# EAGLE library part ATA6563 (library lichtenstein_onion)
ATA6563 – High-speed CAN FD Transceiver with Standby Mode and VIO Pin and WUP Information <https://www.microchip.com/wwwproducts/en/ATA6563> Datasheet <http://ww1.microchip.com/downloads/en/DeviceDoc/20005790B.pdf> Doesn't seem to be available from Mouser: buy direct from Microchip (~$0.50/1)
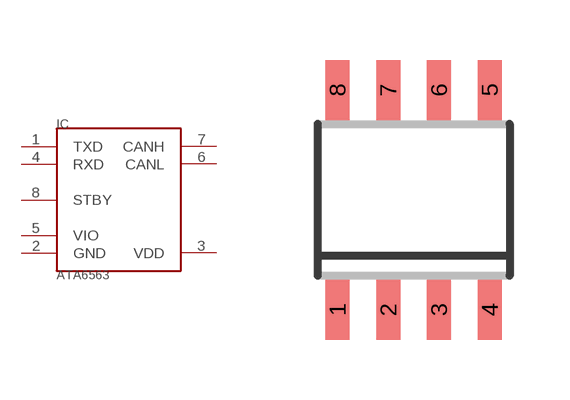
[diagram p16: symbol with the pads of SOIC8; footprint SOIC8]

Designator prefix IC

## ATA6563  [SOIC8]
1  TXD
2  GND
3  VDD
4  RXD
5  VIO
6  CANL
7  CANH
8  STBY

## Footprint SOIC8 (pad centres in mm)
SOIC-8 CASE 751-07 Source: http://www.onsemi.com/pub/Collateral/MC34164-D.PDF D (R-PDSO-G8)PLATIC SMALL-OUTLINE PACKAGE Source: http://focus.ti.com/lit/ds/symlink/tlc27l2.pdf
smd 0.6 x 1.5: 1 -1.905,-2.75; 2 -0.635,-2.75; 3 0.635,-2.75; 4 1.905,-2.75; 5 1.905,2.75; 6 0.635,2.75; 7 -0.635,2.75; 8 -1.905,2.75